# Altium schematic symbol library relais.SchLib: 1 symbol
Pins are listed as number, name and electrical type; pins without a type are passive.

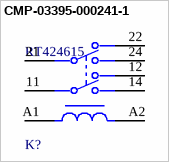
[diagram p0: symbol CMP-03395-000241-1]

## CMP-03395-000241-1
designator K?, comment RT424615
RELAY GEN PURPOSE DPDT 8A 115V; Max Current Rating: 15A; Ratings: IP54; Coil Type: Non-Latching; Power Rating: 760mW; Max Voltage Rating (AC): 400V; Coil Resistance: 8.1kR; Operate Time: 8ms; Approvals: CSA; Application(s): POWER; Relay Type: General Purpose; Switching Capacity: 2kW; Length: 29mm; Switching Current: 8A; Mount: Through Hole; Contact Current Rating: 8A; Coil Voltage (AC): 115V; Voltage Rating (AC): 400V; Width: 12.7mm; Radiation Hardening: No; Case/Package: DIP; Current Rating: 8A; Number of Pins: 8; Height: 15.7mm; Series: RT2, SCHRACK; Throw Configuration: DPDT; Packaging: Rail/Tube; Package Quantity: 500; Min Operating Temperature: -40°C; Termination: PC Pin; RoHS Compliant: Yes; Depth: 12.7mm; Max Operating Temperature: 70°C; Contact Material: Silver
footprint FP-RT424615-MFG
pins: 11, 12, 14, 21, 22, 24, A1, A2